# Altium footprint library CAPC0502X28N.PcbLib: 1 footprints
Each footprint in its own frame and in the unit in brackets; x right, y up, seen from the top. Pads: shape width x height; smd on the part's side, far side on the other; paste and mask are expansions set on the pad; w line width, h text height; cw(c..) or ccw(c..) is an arc to the next point about the centre after c.
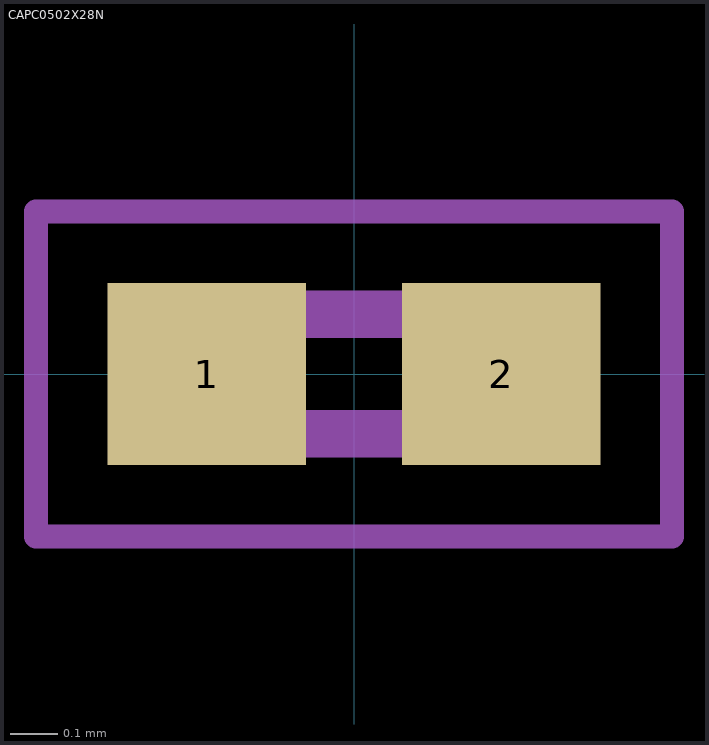
[diagram p0: the footprint, top view; thin cyan lines are the x and y axes]

## CAPC0502X28N [mm]
pads (2):
  rect 0.415x0.38 smd: 1(-0.308,0) 2(0.308,0)
Mechanical 15:
  lines w0.1: -0.25,-0.125 0.25,-0.125 0.25,0.125 -0.25,0.125 -0.25,-0.125
Mechanical 20:
  lines w0.05: -0.665,-0.34 0.665,-0.34 0.665,0.34 -0.665,0.34 -0.665,-0.34